# EAGLE library part MPU6050 (library MCE_Modulos)
IMU 6 Grados de libertad - Giroscopio de 3-ejes y acelerómetro de 3-ejes
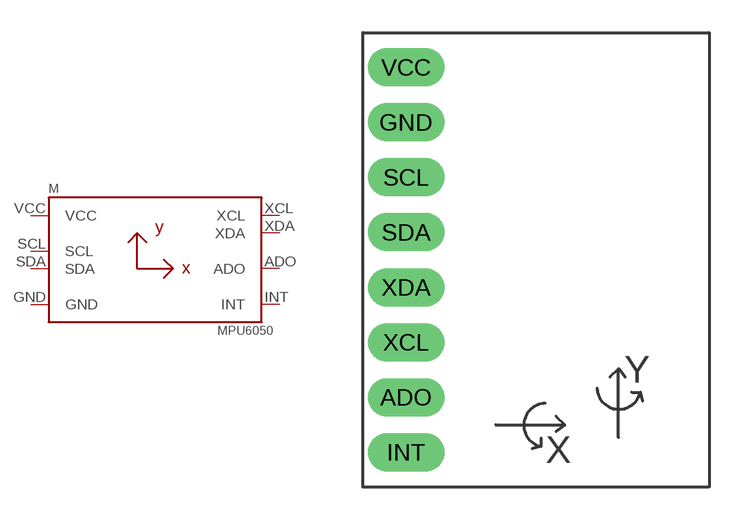
[diagram p9: symbol with the pads of MPU6050; footprint MPU6050]

Designator prefix M

## MPU6050  [MPU6050]
ADO  ADO
GND  GND  pwr
INT  INT
SCL  SCL  in
SDA  SDA
VCC  VCC  pwr
XCL  XCL
XDA  XDA

## Footprint MPU6050 (pad centres in mm)
drill 0.9 pad 1.778 long: ADO -6,-6.35; GND -6,6.35; INT -6,-8.89; SCL -6,3.81; SDA -6,1.27; VCC -6,8.89; XCL -6,-3.81; XDA -6,-1.27